# Altium footprint library op-amp.PCBLIB: 16 footprints
Each footprint in its own frame and in the unit in brackets; x right, y up, seen from the top. Pads: shape width x height; smd on the part's side, far side on the other; paste and mask are expansions set on the pad; w line width, h text height; cw(c..) or ccw(c..) is an arc to the next point about the centre after c.
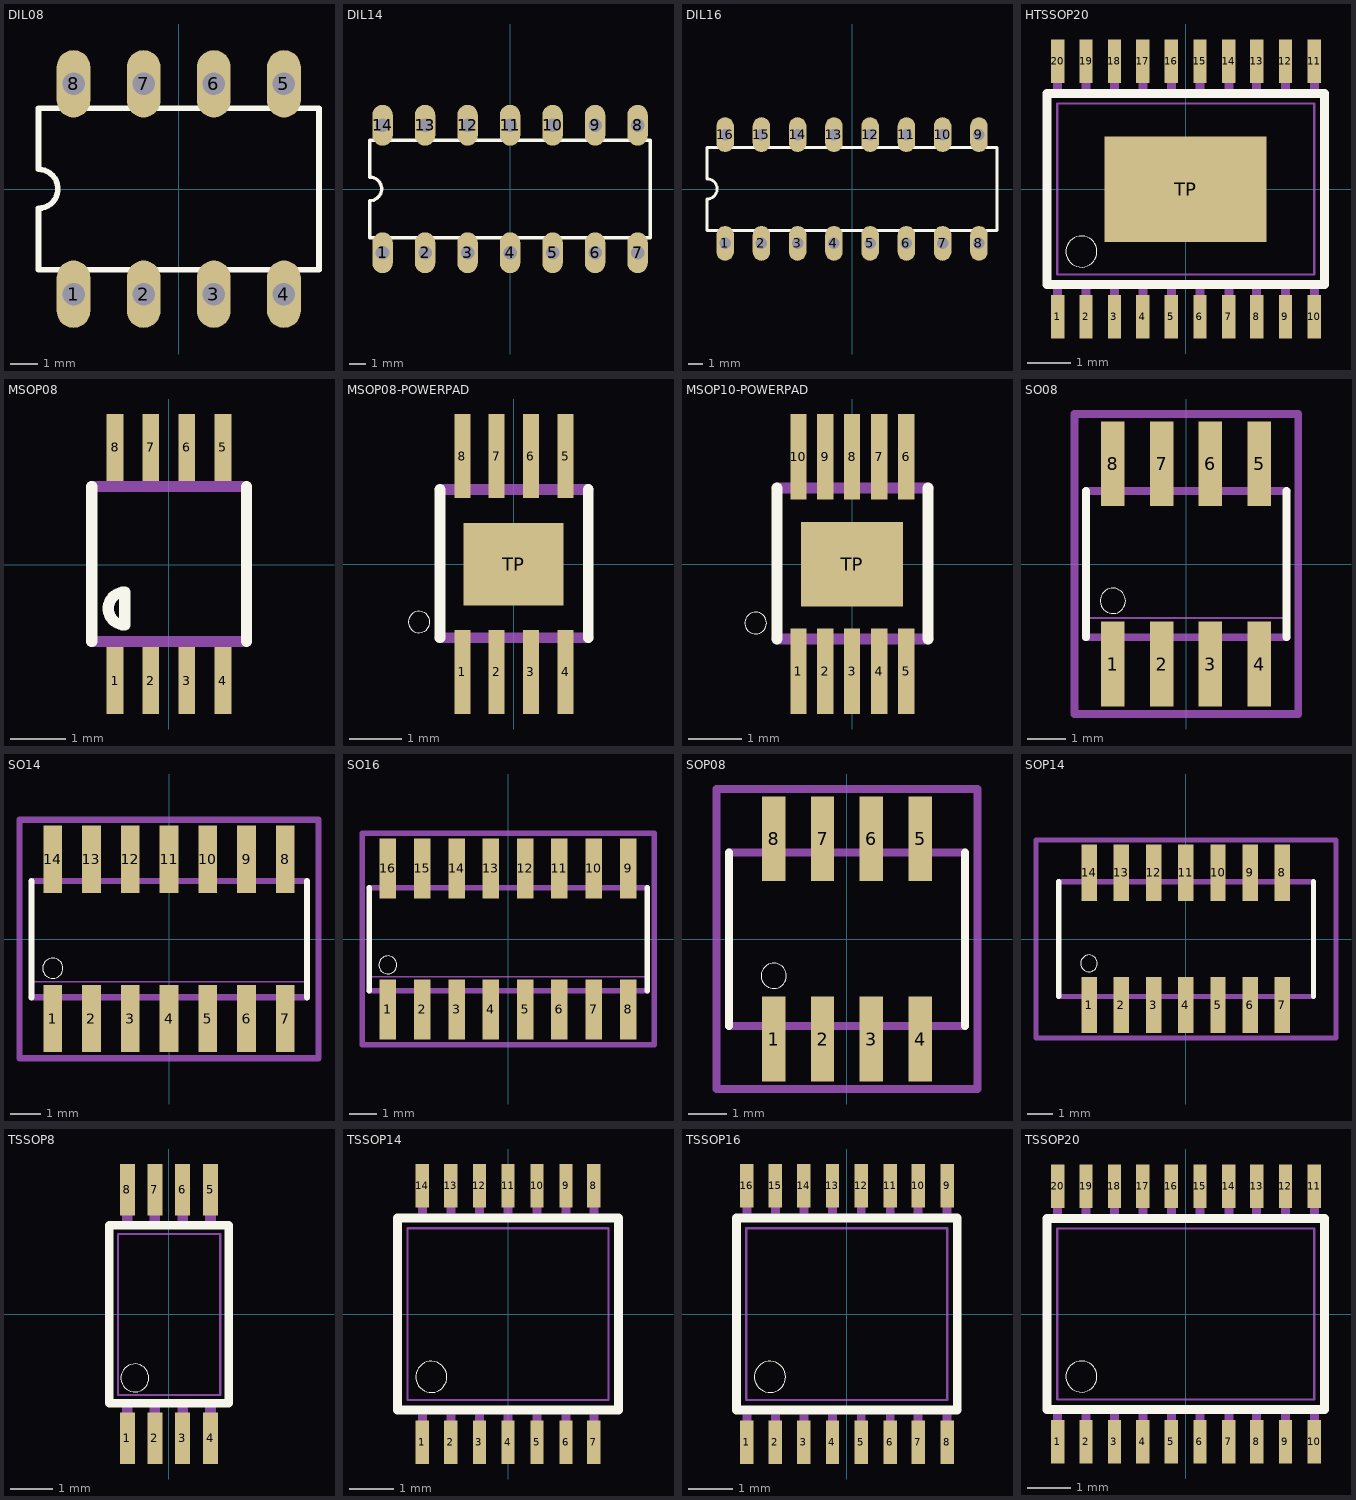
[diagram p0: the footprints below, top view; thin cyan lines are the x and y axes]

## DIL08 [mil]
pads (8):
  oval 48x96 hole 32: 1(-150,-150) 2(-50,-150) 3(50,-150) 4(150,-150) 5(150,150) 6(50,150) 7(-50,150) 8(-150,150)
Top Overlay:
  lines w8: -200,-115 200,-115 200,115 -200,115 -200,28 cw(c-200,0.25) -200,-27.5 -200,-115
Mechanical 2:
  text ">NAME" at -225,-100 h62
Mechanical 4:
  text ">VALUE" at -137.5,-25 h49.6

## DIL14 [mil]
pads (14):
  oval 48x96 hole 32: 1(-300,-150) 2(-200,-150) 3(-100,-150) 4(0,-150) 5(100,-150) 6(200,-150) 7(300,-150) 8(300,150) 9(200,150) 10(100,150) 11(0,150) 12(-100,150) 13(-200,150) 14(-300,150)
Top Overlay:
  lines w8: -330,-115 330,-115 330,115 -330,115 -330,28 cw(c-330,0.25) -330,-27.5 -330,-115
Mechanical 2:
  text ">NAME" at -350,-100 h62
Mechanical 4:
  text ">VALUE" at -262.5,-25 h49.6

## DIL16 [mil]
pads (16):
  oval 48x96 hole 32: 1(-350,-150) 2(-250,-150) 3(-150,-150) 4(-50,-150) 5(50,-150) 6(150,-150) 7(250,-150) 8(350,-150) 9(350,150) 10(250,150) 11(150,150) 12(50,150) 13(-50,150) 14(-150,150) 15(-250,150) 16(-350,150)
Top Overlay:
  lines w8: -400,-115 400,-115 400,115 -400,115 -400,28 cw(c-400,0.25) -400,-27.5 -400,-115
Mechanical 2:
  text ">NAME" at -425,-100 h62
Mechanical 4:
  text ">VALUE" at -300,-25 h49.6

## HTSSOP20 [mil]
pads (21):
  rect 12x39 smd: 1(-115.16,-114.87) 2(-89.57,-114.87) 3(-63.98,-114.87) 4(-38.39,-114.87) 5(-12.8,-114.87) 6(13,-114.87) 7(39,-114.87) 8(64,-114.87) 9(90,-114.87) 10(116,-114.87) 11(116,115) 12(90,115) 13(64,115) 14(39,115) 15(13,115) 16(-12.8,115) 17(-38.39,115) 18(-63.98,115) 19(-89.57,115) 20(-115.16,115)
  rect 146x95 smd: TP(0,0)
Top Overlay:
  circle w0: c-93.75,-56.25 r14
  lines w8: -124.59,-85.94 125,-85.94 125,86 -124.59,86 -124.59,-85.94
Mechanical 2:
  text ">NAME" at -137.5,-87.5 h62
Mechanical 4:
  text ">VALUE" at 175,-87.5 h49.6
Mechanical 16:
  rectangle: -119.16,-122.87 -111.16,-89.87
  rectangle: -93.57,-122.87 -85.57,-89.87
  rectangle: -67.98,-122.87 -59.98,-89.87
  rectangle: -42.39,-122.87 -34.39,-89.87
  rectangle: -16.8,-122.87 -8.8,-89.87
  rectangle: 9,-122.87 17,-89.87
  rectangle: 35,-122.87 43,-89.87
  rectangle: 60,-122.87 68,-89.87
  rectangle: 86,-122.87 94,-89.87
  rectangle: 112,-122.87 120,-89.87
  rectangle: 112,90 120,123
  rectangle: 86,90 94,123
  rectangle: 60,90 68,123
  rectangle: 35,90 43,123
  rectangle: 9,90 17,123
  rectangle: -16.8,90 -8.8,123
  rectangle: -42.39,90 -34.39,123
  rectangle: -67.98,90 -59.98,123
  rectangle: -93.57,90 -85.57,123
  rectangle: -119.16,90 -111.16,123
  lines w2: -115.59,-76.94 116,-76.94 116,77 -115.59,77 -115.59,-76.94

## MSOP08 [mil]
pads (8):
  rect 12x48 smd: 1(-38.41,-83.19) 2(-12.82,-83.19) 3(13,-83.19) 4(39,-83.19) 5(39,84) 6(13,84) 7(-12.82,84) 8(-38.41,84)
Top Overlay:
  lines w8: -55.12,-55.12 -55.12,56 ; 56,-55.12 56,56 ; -31.5,-43.31 cw(c-31.5,-31.5) -31.5,-19.68 -31.5,-43.31
Mechanical 2:
  text ">NAME" at -80,-100 h62
Mechanical 4:
  text ">VALUE" at 130,-100 h49.6
Mechanical 16:
  rectangle: -43.31,-98.43 -33.46,-59.06
  rectangle: -17.72,-98.43 -7.87,-59.06
  rectangle: 8,-98.43 18,-59.06
  rectangle: 8,-98.43 18,-59.06
  rectangle: 34,-98.43 44,-59.06
  rectangle: 34,60 44,99
  rectangle: 8,60 18,99
  rectangle: -17.72,60 -7.87,99
  rectangle: -43.31,60 -33.46,99
  lines w8: -55.12,-55.12 56,-55.12 ; -55.12,56 56,56

## MSOP08-POWERPAD [mil]
pads (9):
  rect 12x63 smd: 1(-38.39,-80.71) 2(-12.8,-80.71) 3(13,-80.71) 4(39,-80.71) 5(39,81) 6(13,81) 7(-12.8,81) 8(-38.39,81)
  rect 75x62 smd: TP(0,0)
Top Overlay:
  circle w0: c-70.87,-43.31 r8
  lines w8: -55.12,-55.12 -55.12,56 ; 56,-55.12 56,56
Top Solder:
  rectangle: -43.31,-37.4 44,38
Mechanical 2:
  text ">NAME" at -75,-25 h62
Mechanical 4:
  text ">VALUE" at 100,-50 h49.6
Mechanical 16:
  rectangle: -42.32,60 -34.45,97
  rectangle: -16.73,60 -8.86,97
  rectangle: 9,60 17,97
  rectangle: 35,60 43,97
  region: -34.45,-59.06 -42.32,-59.06 -42.32,-96.46 -34.45,-96.46
  region: -8.86,-59.06 -16.73,-59.06 -16.73,-96.46 -8.86,-96.46
  region: 17,-59.06 9,-59.06 9,-96.46 17,-96.46
  region: 43,-59.06 35,-59.06 35,-96.46 43,-96.46
  lines w8: -55.12,-55.12 56,-55.12 ; -55.12,56 56,56

## MSOP10-POWERPAD [mil]
pads (11):
  rect 12x63 smd: 1(-39.37,-78.74) 2(-19.68,-78.74) 3(0,-78.74) 4(20,-78.74) 5(40,-78.74) 6(40,79) 7(20,79) 8(0,79) 9(-19.68,79) 10(-39.37,79)
  rect 75x62 smd: TP(0,0)
Top Overlay:
  circle w0: c-70.87,-43.31 r8
  lines w8: -55.12,-55.12 -55.12,56 ; 56,-55.12 56,56
Mechanical 2:
  text ">NAME" at -75,-25 h62
Mechanical 4:
  text ">VALUE" at 100,-50 h49.6
Mechanical 16:
  rectangle: -43.31,-96.46 -35.43,-59.06
  rectangle: -23.62,-96.46 -15.75,-59.06
  rectangle: -3.94,-96.46 4,-59.06
  rectangle: 16,-96.46 24,-59.06
  rectangle: 36,-96.46 44,-59.06
  rectangle: 36,60 44,97
  rectangle: 16,60 24,97
  rectangle: -3.94,60 4,97
  rectangle: -23.62,60 -15.75,97
  rectangle: -43.31,60 -35.43,97
  lines w8: -55.12,-55.12 56,-55.12 ; -55.12,56 56,56

## SO08 [mil]
pads (8):
  rect 24x87 smd: 1(-75,-102.36) 2(-25,-102.36) 3(25,-102.36) 4(75,-102.36) 5(75,103) 6(25,103) 7(-25,103) 8(-75,103)
Top Overlay:
  circle w0: c-75,-37.5 r13
  lines w8: -102.36,-74.8 -102.36,75 ; 103,-74.8 103,75
Mechanical 2:
  text ">NAME" at -125,-75 h62
Mechanical 4:
  text ">VALUE" at -87.5,-12.5 h49.6
Mechanical 16:
  rectangle: -84.65,-122.05 -65.35,-78.74
  rectangle: -34.65,-122.05 -15.35,-78.74
  rectangle: 16,-122.05 35,-78.74
  rectangle: 66,-122.05 85,-78.74
  rectangle: 66,79 85,123
  rectangle: 16,79 35,123
  rectangle: -34.65,79 -15.35,123
  rectangle: -84.65,79 -65.35,123
  lines w2: -102.36,-55.12 103,-55.12
  lines w8: -102.36,-74.8 103,-74.8 ; -102.36,75 103,75
Mechanical 27:
  lines w8: -114.17,-153.54 115,-153.54 115,154 -114.17,154 -114.17,-153.54

## SO14 [mil]
pads (14):
  rect 24x87 smd: 1(-150,-102.36) 2(-100,-102.36) 3(-50,-102.36) 4(0,-102.36) 5(50,-102.36) 6(100,-102.36) 7(150,-102.36) 8(150,103) 9(100,103) 10(50,103) 11(0,103) 12(-50,103) 13(-100,103) 14(-150,103)
Top Overlay:
  circle w0: c-150,-37.5 r13
  lines w8: -177.36,-74.8 -177.36,75 ; 178,-74.8 178,75
Mechanical 2:
  text ">NAME" at -200,-75 h62
Mechanical 4:
  text ">VALUE" at -125,-25 h49.6
Mechanical 16:
  rectangle: -159.65,-122.05 -140.35,-78.74
  rectangle: -109.65,-122.05 -90.35,-78.74
  rectangle: -59.65,-122.05 -40.35,-78.74
  rectangle: -9.65,-122.05 10,-78.74
  rectangle: -9.65,79 10,123
  rectangle: -59.65,79 -40.35,123
  rectangle: -109.65,79 -90.35,123
  rectangle: -159.65,79 -140.35,123
  rectangle: 41,-122.05 60,-78.74
  rectangle: 91,-122.05 110,-78.74
  rectangle: 141,-122.05 160,-78.74
  rectangle: 141,79 160,123
  rectangle: 91,79 110,123
  rectangle: 41,79 60,123
  lines w2: -177.36,-55.12 178,-55.12
  lines w8: -177.36,-74.8 178,-74.8 ; -177.36,75 178,75
Mechanical 27:
  lines w8: -192.72,-153.54 193,-153.54 193,154 -192.72,154 -192.72,-153.54

## SO16 [mil]
pads (16):
  rect 24x87 smd: 1(-175,-102.36) 2(-125,-102.36) 3(-75,-102.36) 4(-25,-102.36) 5(25,-102.36) 6(75,-102.36) 7(125,-102.36) 8(175,-102.36) 9(175,103) 10(125,103) 11(75,103) 12(25,103) 13(-25,103) 14(-75,103) 15(-125,103) 16(-175,103)
Top Overlay:
  circle w0: c-175,-37.5 r13
  lines w8: -202.36,-74.8 -202.36,75 ; 203,-74.8 203,75
Mechanical 2:
  text ">NAME" at -225,-75 h34
Mechanical 4:
  text ">VALUE" at -125,-25 h49.6
Mechanical 16:
  rectangle: -184.65,-122.05 -165.35,-78.74
  rectangle: -134.65,-122.05 -115.35,-78.74
  rectangle: -84.65,-122.05 -65.35,-78.74
  rectangle: -34.65,-122.05 -15.35,-78.74
  rectangle: 66,79 85,123
  rectangle: 16,79 35,123
  rectangle: -34.65,79 -15.35,123
  rectangle: -84.65,79 -65.35,123
  rectangle: 16,-122.05 35,-78.74
  rectangle: 66,-122.05 85,-78.74
  rectangle: 116,-122.05 135,-78.74
  rectangle: 166,-122.05 185,-78.74
  rectangle: 166,79 185,123
  rectangle: 116,79 135,123
  rectangle: -134.65,79 -115.35,123
  rectangle: -184.65,79 -165.35,123
  lines w2: -202.36,-55.12 203,-55.12
  lines w8: -202.36,-74.8 203,-74.8 ; -202.36,75 203,75
Mechanical 27:
  lines w8: -212.4,-153.54 213,-153.54 213,154 -212.4,154 -212.4,-153.54

## SOP08 [mil]
pads (8):
  rect 24x87 smd: 1(-75,-102.36) 2(-25,-102.36) 3(25,-102.36) 4(75,-102.36) 5(75,103) 6(25,103) 7(-25,103) 8(-75,103)
Top Overlay:
  circle w0: c-75,-37.5 r13
  lines w8: -120.87,-88.98 -120.87,89 ; 121,-88.98 121,89
Mechanical 2:
  text ">NAME" at -137.5,-87.5 h62
Mechanical 4:
  text ">VALUE" at 163,-87.5 h49.6
Mechanical 16:
  rectangle: -84.84,-137.4 -65.16,-92.91
  rectangle: -34.84,-137.4 -15.16,-92.91
  rectangle: 16,-137.4 35,-92.91
  rectangle: 66,-137.4 85,-92.91
  rectangle: 66,93 85,138
  rectangle: 16,93 35,138
  rectangle: -34.84,93 -15.16,138
  rectangle: -84.84,93 -65.16,138
  lines w8: -120.87,-88.98 121,-88.98 ; -120.87,89 121,89
Mechanical 27:
  lines w8: -133.86,-153.54 -133.86,154 134,154 134,-153.54 -133.86,-153.54

## SOP14 [mil]
pads (14):
  rect 24x87 smd: 1(-150,-102.36) 2(-100,-102.36) 3(-50,-102.36) 4(0,-102.36) 5(50,-102.36) 6(100,-102.36) 7(150,-102.36) 8(150,103) 9(100,103) 10(50,103) 11(0,103) 12(-50,103) 13(-100,103) 14(-150,103)
Top Overlay:
  circle w0: c-150,-37.5 r13
  lines w8: -197.05,-88.98 -197.05,89 ; 198,-88.98 198,89
Mechanical 2:
  text ">NAME" at -212.5,-87.5 h62
Mechanical 4:
  text ">VALUE" at 250,-87.5 h49.6
Mechanical 16:
  rectangle: -159.84,-137.4 -140.16,-92.91
  rectangle: -109.84,-137.4 -90.16,-92.91
  rectangle: -59.84,-137.4 -40.16,-92.91
  rectangle: -9.84,-137.4 10,-92.91
  rectangle: 41,-137.4 60,-92.91
  rectangle: 91,-137.4 110,-92.91
  rectangle: 141,-137.4 160,-92.91
  rectangle: 141,93 160,138
  rectangle: 91,93 110,138
  rectangle: 41,93 60,138
  rectangle: -9.84,93 10,138
  rectangle: -59.84,93 -40.16,138
  rectangle: -109.84,93 -90.16,138
  rectangle: -159.84,93 -140.16,138
  lines w8: -197.05,-88.98 198,-88.98 ; -197.05,89 198,89
Mechanical 27:
  lines w8: -232.28,-153.54 -232.28,154 233,154 233,-153.54 -232.28,-153.54

## TSSOP8 [mil]
pads (8):
  rect 14x48 smd: 1(-38.39,-115.16) 2(-12.8,-115.16) 3(13,-115.16) 4(39,-115.16) 5(39,116) 6(13,116) 7(-12.8,116) 8(-38.39,116)
Top Overlay:
  circle w0: c-31.5,-59.06 r13
  lines w8: -55.12,-82.68 -55.12,83 56,83 56,-82.68 -55.12,-82.68
Mechanical 2:
  text ">NAME" at -75,-81.25 h62
Mechanical 4:
  text ">VALUE" at 107,-87.5 h49.6
Mechanical 16:
  rectangle: -43.31,-122.05 -33.46,-82.68
  rectangle: -17.72,-122.05 -7.87,-82.68
  rectangle: 8,-122.05 18,-82.68
  rectangle: 34,-122.05 44,-82.68
  rectangle: 34,83 44,123
  rectangle: 8,83 18,123
  rectangle: -17.72,83 -7.87,123
  rectangle: -43.31,83 -33.46,123
  lines w2: -47.24,-74.8 48,-74.8 48,75 -47.24,75 -47.24,-74.8

## TSSOP14 [mil]
pads (14):
  rect 12x39 smd: 1(-76.77,-114.87) 2(-51.18,-114.87) 3(-25.59,-114.87) 4(0,-114.87) 5(26,-114.87) 6(52,-114.87) 7(77,-114.87) 8(77,115) 9(52,115) 10(26,115) 11(0,115) 12(-25.59,115) 13(-51.18,115) 14(-76.77,115)
Top Overlay:
  circle w0: c-68.75,-56.25 r14
  lines w8: -99,-85.94 99,-85.94 99,86 -99,86 -99,-85.94
Mechanical 2:
  text ">NAME" at -118.75,-81.25 h62
Mechanical 4:
  text ">VALUE" at 150,-87.5 h49.6
Mechanical 16:
  rectangle: -80.77,-122.87 -72.77,-89.87
  rectangle: -55.18,-122.87 -47.18,-89.87
  rectangle: -29.59,-122.87 -21.59,-89.87
  rectangle: -4,-122.87 4,-89.87
  rectangle: 22,-122.87 30,-89.87
  rectangle: 48,-122.87 56,-89.87
  rectangle: 73,-122.87 81,-89.87
  rectangle: 73,90 81,123
  rectangle: 48,90 56,123
  rectangle: 22,90 30,123
  rectangle: -4,90 4,123
  rectangle: -29.59,90 -21.59,123
  rectangle: -55.18,90 -47.18,123
  rectangle: -80.77,90 -72.77,123
  lines w2: -90,-76.94 90,-76.94 90,77 -90,77 -90,-76.94

## TSSOP16 [mil]
pads (16):
  rect 12x39 smd: 1(-89.57,-114.87) 2(-63.98,-114.87) 3(-38.39,-114.87) 4(-12.8,-114.87) 5(13,-114.87) 6(39,-114.87) 7(64,-114.87) 8(90,-114.87) 9(90,115) 10(64,115) 11(39,115) 12(13,115) 13(-12.8,115) 14(-38.39,115) 15(-63.98,115) 16(-89.57,115)
Top Overlay:
  circle w0: c-68.75,-56.25 r14
  lines w8: -99,-85.94 99,-85.94 99,86 -99,86 -99,-85.94
Mechanical 2:
  text ">NAME" at -118.75,-81.25 h62
Mechanical 4:
  text ">VALUE" at 150,-87.5 h49.6
Mechanical 16:
  rectangle: -93.57,-122.87 -85.57,-89.87
  rectangle: -67.98,-122.87 -59.98,-89.87
  rectangle: -42.39,-122.87 -34.39,-89.87
  rectangle: -16.8,-122.87 -8.8,-89.87
  rectangle: 9,-122.87 17,-89.87
  rectangle: 35,-122.87 43,-89.87
  rectangle: 60,-122.87 68,-89.87
  rectangle: 86,-122.87 94,-89.87
  rectangle: 86,90 94,123
  rectangle: 60,90 68,123
  rectangle: 35,90 43,123
  rectangle: 9,90 17,123
  rectangle: -16.8,90 -8.8,123
  rectangle: -42.39,90 -34.39,123
  rectangle: -67.98,90 -59.98,123
  rectangle: -93.57,90 -85.57,123
  lines w2: -90,-76.94 90,-76.94 90,77 -90,77 -90,-76.94

## TSSOP20 [mil]
pads (20):
  rect 12x39 smd: 1(-115.16,-114.87) 2(-89.57,-114.87) 3(-63.98,-114.87) 4(-38.39,-114.87) 5(-12.8,-114.87) 6(13,-114.87) 7(39,-114.87) 8(64,-114.87) 9(90,-114.87) 10(116,-114.87) 11(116,115) 12(90,115) 13(64,115) 14(39,115) 15(13,115) 16(-12.8,115) 17(-38.39,115) 18(-63.98,115) 19(-89.57,115) 20(-115.16,115)
Top Overlay:
  circle w0: c-93.75,-56.25 r14
  lines w8: -124.59,-85.94 125,-85.94 125,86 -124.59,86 -124.59,-85.94
Mechanical 2:
  text ">NAME" at -143.75,-87.5 h62
Mechanical 4:
  text ">VALUE" at 188,-87.5 h49.6
Mechanical 16:
  rectangle: -119.16,-122.87 -111.16,-89.87
  rectangle: -93.57,-122.87 -85.57,-89.87
  rectangle: -67.98,-122.87 -59.98,-89.87
  rectangle: -42.39,-122.87 -34.39,-89.87
  rectangle: -16.8,-122.87 -8.8,-89.87
  rectangle: 9,-122.87 17,-89.87
  rectangle: 35,-122.87 43,-89.87
  rectangle: 60,-122.87 68,-89.87
  rectangle: 86,-122.87 94,-89.87
  rectangle: 112,-122.87 120,-89.87
  rectangle: 112,90 120,123
  rectangle: 86,90 94,123
  rectangle: 60,90 68,123
  rectangle: 35,90 43,123
  rectangle: 9,90 17,123
  rectangle: -16.8,90 -8.8,123
  rectangle: -42.39,90 -34.39,123
  rectangle: -67.98,90 -59.98,123
  rectangle: -93.57,90 -85.57,123
  rectangle: -119.16,90 -111.16,123
  lines w2: -115.59,-76.94 116,-76.94 116,77 -115.59,77 -115.59,-76.94